# Altium schematic symbol library R05CTE05S-R.SchLib: 1 symbol
Pins are listed as number, name and electrical type; pins without a type are passive.

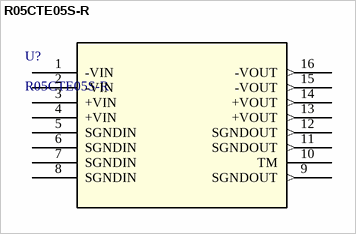
[diagram p0: symbol R05CTE05S-R]

## R05CTE05S-R
designator U?
No Description Available; Manufacturer_Name: Recom Power; Copyright: Copyright (C) 2026 Ultra Librarian. All rights reserved.; Manufacturer_Part_Number: R05CTE05S-R; RefDes: RefDes; Type: Type
footprint SMD_16_10.35X7.5X2.5_RCP
pins: 1 -VIN (power), 2 -VIN (power), 3 +VIN (power), 4 +VIN (power), 5 SGNDIN (power), 6 SGNDIN (power), 7 SGNDIN (power), 8 SGNDIN (power), 9 SGNDOUT (out), 10 TM, 11 SGNDOUT (out), 12 SGNDOUT (out), 13 +VOUT (out), 14 +VOUT (out), 15 -VOUT (out), 16 -VOUT (out)